# Altium integrated library STTH112A.IntLib: 3 symbols
Pins are listed as number, name and electrical type; pins without a type are passive.

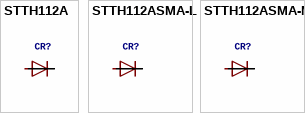
[diagram p0: symbols STTH112A to STTH112ASMA-M]

## STTH112A
designator CR?
GateName_1: A; SymbolName_1: DIODE; DeviceSetName: STTH112A; VENDOR: STMicroelectronics; LibraryName: STTH112A; Package: SMA; MANUFACTURER_PART_NUMBER: STTH112A
footprint SMA
pins: 1 11, 2 22

## STTH112ASMA-L
designator CR?
GateName_1: A; SymbolName_1: DIODE; DeviceName: SMA-L; DeviceSetName: STTH112A; VENDOR: STMicroelectronics; LibraryName: STTH112A; Package: SMA-L; MANUFACTURER_PART_NUMBER: STTH112A
footprint SMA-L
pins: 1 11, 2 22

## STTH112ASMA-M
designator CR?
GateName_1: A; SymbolName_1: DIODE; DeviceName: SMA-M; DeviceSetName: STTH112A; VENDOR: STMicroelectronics; LibraryName: STTH112A; Package: SMA-M; MANUFACTURER_PART_NUMBER: STTH112A
footprint SMA-M
pins: 1 11, 2 22